# Altium footprint library LMS1587CT-ADJ.PcbLib: 2 footprints
Each footprint in its own frame and in the unit in brackets; x right, y up, seen from the top. Pads: shape width x height; smd on the part's side, far side on the other; paste and mask are expansions set on the pad; w line width, h text height; cw(c..) or ccw(c..) is an arc to the next point about the centre after c.
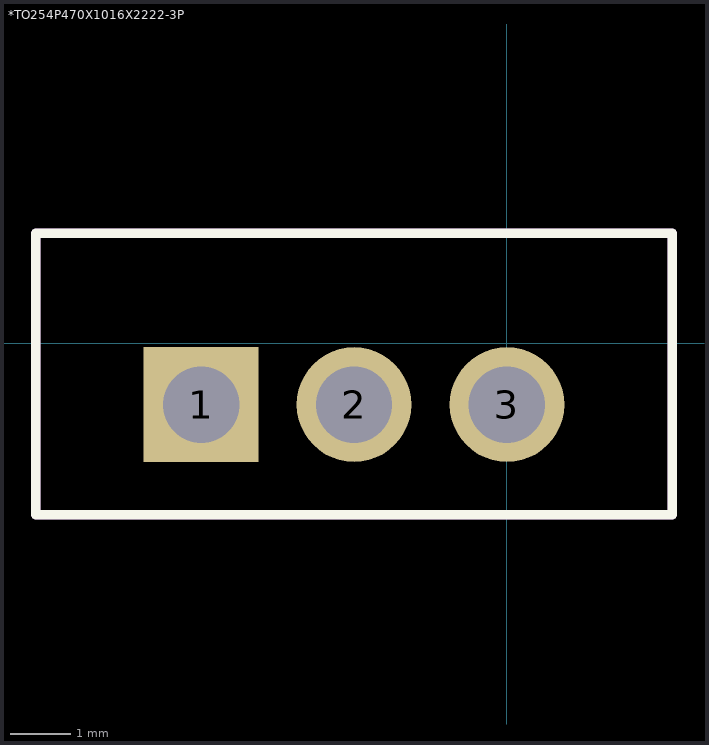
[diagram p0: the footprints below, top view; thin cyan lines are the x and y axes]

## *TO254P470X1016X2222-3P [mil]
pads (3):
  rect 75x75 hole 50: 1(-200,-40)
  round 75 hole 50: 2(-100,-40) 3(0,-40)
Top Overlay:
  lines w6: -308,-112 -308,72 108,72 108,-112 -308,-112
Mechanical 4:
  lines w6: -308,-112 -308,72 ; -308,-112 108,-112 ; -308,-112 -308,72 ; -308,-112 108,-112 ; -308,72 108,72 ; -308,72 108,72 ; 108,-112 108,72 ; 108,-112 108,72

## PCBComponent_1 [mil]